# EAGLE library part 74LVC2G04 (library EFM8Midi)
Dual Inverter Supports 5 V operation Inputs accept voltages to 5.5 V ±24 mA output drive at 3.3 V ESD Protection Max tpd of 4.1ns at 3.3 V
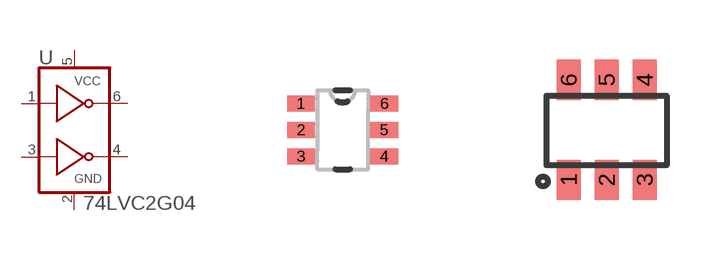
[diagram p2: symbol with the pads of SOT-363-200X125-6N; footprints SOT-363-200X125-6N, SOT-23-290X160-DBV]

Designator prefix U

## 74LVC2G04SOT-363  [SOT-363-200X125-6N]
1  A1  in
2  GND  pas
3  A2  in
4  Y2  out
5  VCC  pwr
6  Y1  out

## 74LVC2G04SOT-23-6-DBV  [SOT-23-290X160-DBV]
Pads as for SOT-363-200X125-6N

## Footprint SOT-363-200X125-6N (pad centres in mm)
smd 0.7 x 0.4: 1 -1.041,0.66; 2 -1.041,0; 3 -1.041,-0.66; 4 1.041,-0.66; 5 1.041,0; 6 1.041,0.66

## Footprint SOT-23-290X160-DBV (pad centres in mm)
smd 0.6 x 1: 1 -0.95,-1.2; 2 0,-1.2; 3 0.95,-1.2; 4 0.95,1.3; 5 0,1.3; 6 -0.95,1.3